# EAGLE library part MICROSD (library Controller Board)
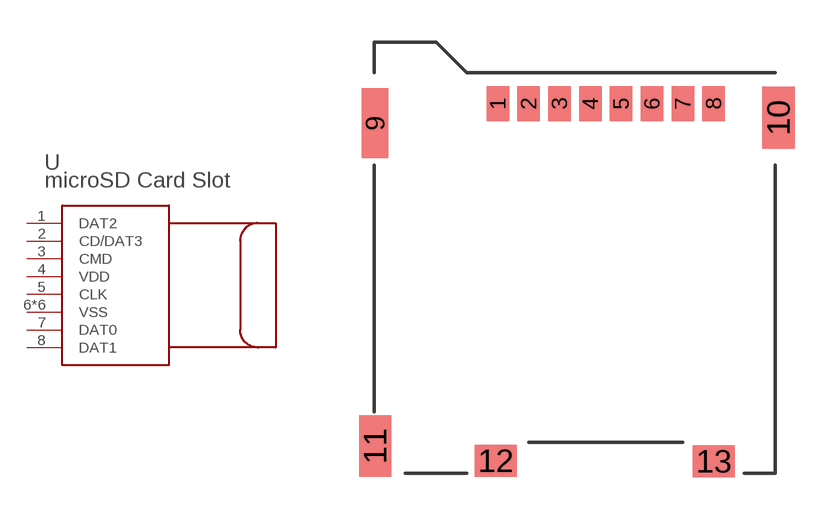
[diagram p8: symbol with the pads of MICROSD; footprint MICROSD]

Designator prefix -

## MICROSD  [MICROSD]
1  DAT2
2  CD/DAT3
3  CMD
4  VDD
5  CLK
6  VSS
7  DAT0
8  DAT1
9  VSS
10  VSS
11  VSS
12  VSS
13  VSS

## Footprint MICROSD (pad centres in mm)
smd 0.8 x 1.24: 1 -4.4,0; 2 -3.3,0; 3 -2.2,0; 4 -1.1,0; 5 0,0; 6 1.1,0; 7 2.2,0; 8 3.3,0
smd 0.95 x 2.5: 9 -8.775,-0.7
smd 1.15 x 2.2: 10 5.615,-0.5; 11 -8.775,-12.23
smd 1.5 x 1.15: 12 -4.47,-12.755; 13 3.31,-12.775